# Altium schematic symbol library Schlib1.SchLib: 24 symbols
Pins are listed as number, name and electrical type; pins without a type are passive.

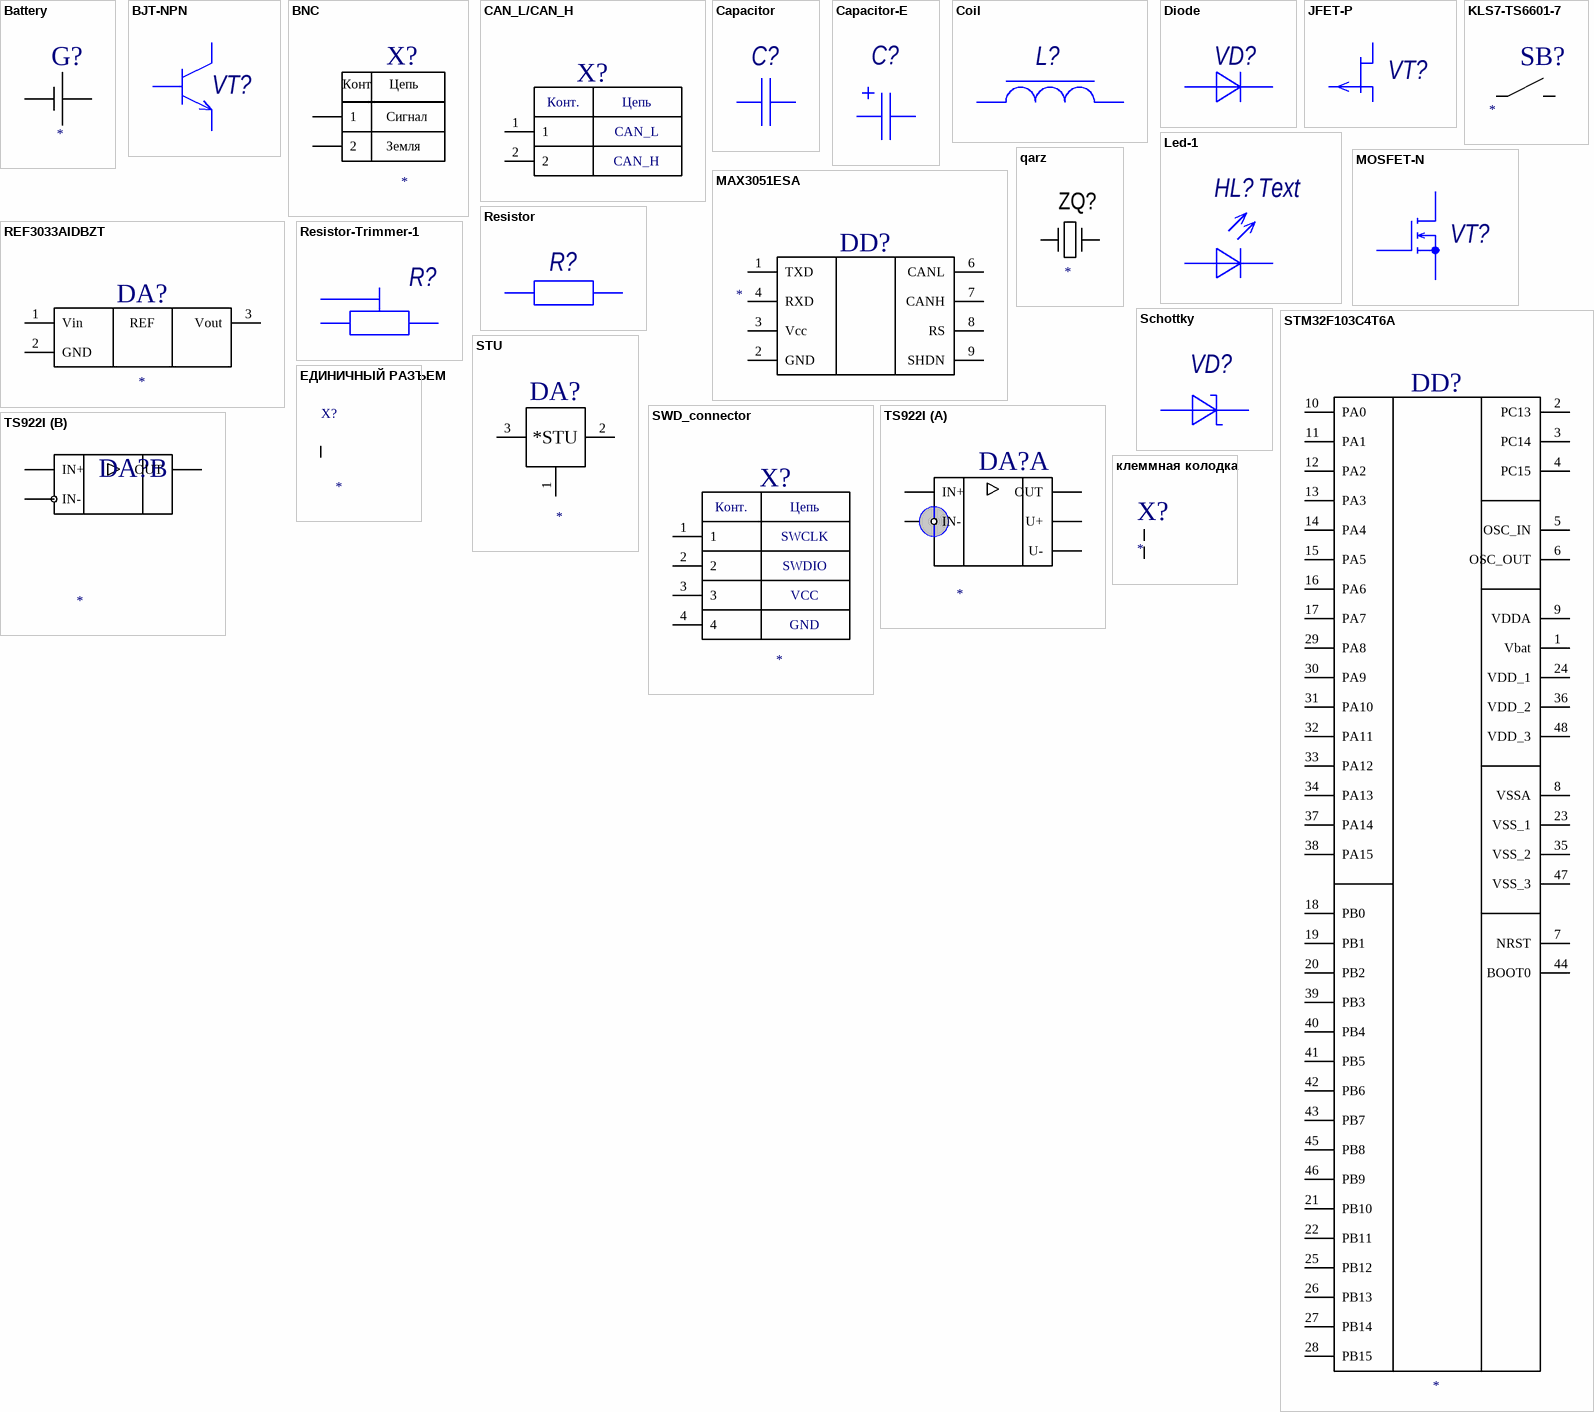
[diagram p0: symbols Battery to клеммная колодка]

## Battery
designator G?
footprint VCC Pad
pins: 1, 2

## BJT-NPN
designator VT?
Type: Транзистор; Published: 07.05.2013; Publisher: Andrew Danich
footprint TO220(H)
pins: 1 Б "База", 2 К "Коллектор", 3 Э "Эмиттер"

## BNC
designator X?
footprint BNC
pins: 1, 2
text: Конт; Цепь; Сигнал; Земля

## CAN_L/CAN_H
designator X?  (value not drawn)
footprint Клеммная колодка
pins: 1, 2
text: Конт.; Цепь; CAN_L; CAN_H

## Capacitor
designator C?
Type: Конденсатор; Published: 18.05.2010; Publisher: Andrew Danich
footprint CAP: 0805
pins: 1, 2

## Capacitor-E
designator C?
Type: Конденсатор; Published: 20.08.2010; Publisher: Andrew Danich
footprint CAP: D5C2H11
pins: 1, 2

## Coil
designator L?
Type: Дроссель; Published: 20.05.2010; Publisher: Andrew Danich
footprint RES: MOV-07D431K
pins: 1, 2

## Diode
designator VD?
Type: Диод; Published: 18.05.2010; Publisher: Andrew Danich
footprint DIODE: SMA
pins: 1 А "Анод", 2 К "Катод"

## JFET-P
designator VT?
Type: Транзистор; Published: 10.02.2014; Publisher: Andrew Danich
footprint TO-92
pins: 1 З "Затвор", 2 С "Сток", 3 И "Исток"

## KLS7-TS6601-7
designator SB?
footprint KLS7-TS6601-7; pin to pad 1>1+2 2>3+4
pins: 1, 2

## Led-1
designator HL?, comment Text
Type: Индикатор единичный; Published: 03.12.2013; Publisher: Andrew Danich
footprint LED: 0805R
pins: 1 А "Анод", 2 К "Катод"
1 alternate drawing of the same symbol

## MAX3051ESA
designator DD?
pins: 1 TXD, 2 GND, 3 Vcc, 4 RXD, 6 CANL, 7 CANH, 8 RS, 9 SHDN

## MOSFET-N
designator VT?
Type: Транзистор; Published: 24.09.2010; Publisher: Andrew Danich
footprint TO-92
pins: 1 G "Затвор", 2 D "Сток", 3 S "Исток"

## qarz
designator ZQ?
footprint qarz
pins: 1, 2

## REF3033AIDBZT
designator DA?
ИОН 3.3 В
pins: 1 Vin, 2 GND, 3 Vout
text: REF

## Resistor
designator R?
Published: 24.03.2010; Publisher: Andrew Danich; Type: Резистор
footprint RES: 0805
pins: 1, 2

## Resistor-Trimmer-1
designator R?
Publisher: Andrew Danich; Type: Подстроечный резистор; Published: 27.07.2015
footprint RES: 3362P
pins: 1, 2, 3

## Schottky
designator VD?
Type: Диод; Published: 18.05.2010; Publisher: Andrew Danich
footprint DIODE: SMA
pins: 1 А "Анод", 2 К "Катод"

## STM32F103C4T6A
designator DD?
МК
pins: 1 Vbat, 2 PC13, 3 PC14, 4 PC15, 5 OSC_IN, 6 OSC_OUT, 7 NRST, 8 VSSA, 9 VDDA, 10 PA0, 11 PA1, 12 PA2, 13 PA3, 14 PA4, 15 PA5, 16 PA6, 17 PA7, 18 PB0, 19 PB1, 20 PB2, 21 PB10, 22 PB11, 23 VSS_1, 24 VDD_1, 25 PB12, 26 PB13, 27 PB14, 28 PB15, 29 PA8, 30 PA9, 31 PA10, 32 PA11, 33 PA12, 34 PA13, 35 VSS_2, 36 VDD_2, 37 PA14, 38 PA15, 39 PB3, 40 PB4, 41 PB5, 42 PB6, 43 PB7, 44 BOOT0, 45 PB8, 46 PB9, 47 VSS_3, 48 VDD_3

## STU
designator DA?
Стабилизатор напряжения
footprint SOT223 (SOT223, 4-Leads, Body 6,50x7,00mm (avg), Pitch 2,30mm, IPC Medium Density)
pins: 1, 2, 3
text: *STU

## SWD_connector
designator X?
footprint PLS-4
pins: 1, 2, 3, 4
text: Конт.; Цепь; SWCLK; SWDIO; VCC; GND

## TS922I
designator DA?
OPAMP 2 channel
footprint 8-SO
part A pins: 1 OUT, 2 IN-, 3 IN+, 4 U-, 8 U+
part B pins: 5 IN+, 6 IN-, 7 OUT

## ЕДИНИЧНЫЙ РАЗЪЕМ
designator X?
footprint pls1
pins: 1

## клеммная колодка
designator X?
footprint Клеммная колодка
footprint Клеммная колодка
pins: 1, 2